# EAGLE library part LED-DRIVER-12CH-RGB-TLC59711 (library FlashPCB_ICs)
TLC59711 - IC LED DRVR LINEAR 60MA 20HTSSOP Technical Specifications: LED Driver IC 12 Output Linear Shift Register Dimming 60mA 20-HTSSOP Driver Type: Linear Shift Register PWM, 16-Bit Greyscale Control. 7-Bit brightness control Outputs: 12 (3x RGB) Voltage Supply: 3V~5.5V Current Output/Channel: 60mA LED Supply Voltage: Up to 17V Component Search: TLC59711 <https://www.flashpcb.com/components> Datasheet: 12-Ch, 16-Bit, Enhanced Spec PWM, RGB LED Driver w/3.3-V Linear Reg and WD Timer datasheet (Rev. A) <https://www.ti.com/lit/ds/symlink/tlc59711.pdf?HQS=dis-dk-null-digikeymode-dsf-pf-null-wwe&ts=1685478277111&ref_url=https%253A%252F%252Fwww.ti.com%252Fgeneral%252Fdocs%252Fsuppproductinfo.tsp%253FdistId%253D10%2526gotoUrl%253Dhttps%253A%252F%252Fwww.ti.com%252Flit%252Fgpn%252Ftlc59711>
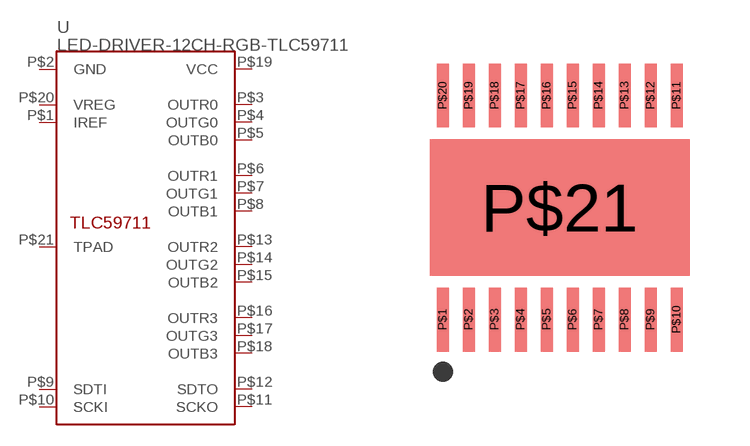
[diagram p53: symbol with the pads of 20-HTSSOP; footprint 20-HTSSOP]

Designator prefix U

## LED-DRIVER-12CH-RGB-TLC59711PWP  [20-HTSSOP]
P$1  IREF
P$2  GND
P$3  OUTR0
P$4  OUTG0
P$5  OUTB0
P$6  OUTR1
P$7  OUTG1
P$8  OUTB1
P$9  SDTI
P$10  SCKI
P$11  SCKO
P$12  SDTO
P$13  OUTR2
P$14  OUTG2
P$15  OUTB2
P$16  OUTR3
P$17  OUTG3
P$18  OUTB3
P$19  VCC
P$20  VREG
P$21  TPAD

## Footprint 20-HTSSOP (pad centres in mm)
smd 0.3 x 1.6: P$1 -2.925,-2.8; P$2 -2.275,-2.8; P$3 -1.625,-2.8; P$4 -0.975,-2.8; P$5 -0.325,-2.8; P$6 0.325,-2.8; P$7 0.975,-2.8; P$8 1.625,-2.8; P$9 2.275,-2.8; P$10 2.925,-2.8; P$11 2.925,2.8; P$12 2.275,2.8; P$13 1.625,2.8; P$14 0.975,2.8; P$15 0.325,2.8; P$16 -0.325,2.8; P$17 -0.975,2.8; P$18 -1.625,2.8; P$19 -2.275,2.8; P$20 -2.925,2.8
smd 6.5 x 3.4: P$21 0,0